# Altium footprint library PcbLib1.PcbLib: 4 footprints
Each footprint in its own frame and in the unit in brackets; x right, y up, seen from the top. Pads: shape width x height; smd on the part's side, far side on the other; paste and mask are expansions set on the pad; w line width, h text height; cw(c..) or ccw(c..) is an arc to the next point about the centre after c.
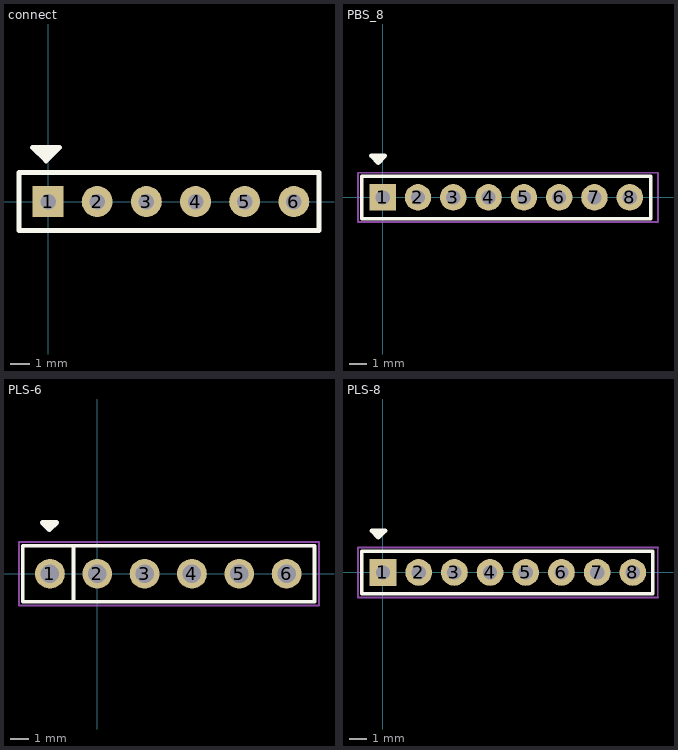
[diagram p0: the footprints below, top view; thin cyan lines are the x and y axes]

## connect [mm]
pads (6):
  rect 1.6x1.6 hole 0.8: 1(0,0)
  round 1.6 hole 0.8: 2(2.54,0) 3(5.08,0) 4(7.62,0) 5(10.16,0) 6(12.7,0)
Top Overlay:
  lines w0.254: -0.6,2.7 0.3,2.7 0.05,2.45 0.05,2.25 -0.1,2.4 ; -0.4,2.7 -0.1,2.4 ; -0.1,2.8 -0.1,2.4 ; -0.1,2.1 -0.8,2.8 0.6,2.8 ; -0.1,2.1 0.6,2.8 ; -0.1,2.1 0.6,2.8 ; -0.1,2.4 -0.1,2.4 ; -1.5,-1.5 14,-1.5 14,1.5 -1.5,1.5 -1.5,-1.5

## PBS_8 [mm] "2X11-2.0"
height 6
pads (8):
  rect 1.5x1.5 hole 0.8: 1(0,0)
  round 1.5 hole 0.8: 2(2,0) 3(4,0) 4(6,0) 5(8,0) 6(10,0) 7(12,0) 8(14,0)
Top Overlay:
  lines w0.2: -1.2,-1.2 -1.2,1.2 15.2,1.2 15.2,-1.2 -1.2,-1.2
  lines w0.254: -0.256,2.349 -0.256,1.965 ; -0.256,1.965 -0.64,2.349 0.129,2.349 -0.256,1.965
Mechanical 15:
  lines w0.1: -1.4,-1.4 -1.4,1.4 15.6,1.4 15.6,-1.4 -1.4,-1.4
3D body "User Library-PBS2-8.STEP": height 4.3, standoff -3.15, extent -1,-1 15,1

## PLS-6 [mm]
height 8.6
pads (6):
  round 1.6 hole 1 mask+0.1: 1(-2.54,0) 2(0,0) 3(2.54,0) 4(5.08,0) 5(7.62,0) 6(10.16,0)
Top Overlay:
  lines w0.2: -1.275,-1.5 -1.275,1.5 ; 11.658,-1.5 -4,-1.5 -4,1.5 11.658,1.5 ; 11.658,-1.495 11.658,1.505
  lines w0.254: -2.566,2.75 -2.566,2.366 ; -2.566,2.366 -2.181,2.75 -2.95,2.75 -2.566,2.366
Mechanical 15:
  lines w0.1: -4.2,-1.7 -4.2,1.7 11.9,1.7 11.9,-1.7 -4.2,-1.7
3D body "User Library-PLS-3.STEP": height 8.54, standoff -3, extent 3.81,-1.27 11.43,1.27
3D body "User Library-PLS-3.STEP": height 8.54, standoff -3, extent -3.81,-1.27 3.81,1.27

## PLS-8 [mm]
pads (8):
  rect 1.5x1.5 hole 0.8: 1(0,0)
  round 1.5 hole 0.8: 2(2,0) 3(4,0) 4(6,0) 5(8,0) 6(10,0) 7(12,0) 8(14,0)
Top Overlay:
  lines w0.2: -1.2,-1.2 -1.2,1.2 15.11,1.2 15.11,-1.2 -1.2,-1.2
  lines w0.254: -0.256,2.349 -0.256,1.965 ; -0.256,1.965 0.129,2.349 -0.64,2.349 -0.256,1.965
Mechanical 15:
  lines w0.1: 15.4,-1.4 15.4,1.4 ; 15.41,-1.4 -1.4,-1.4 -1.4,1.4 15.41,1.4
3D body "User Library-pls2-8_asm.STEP": height 5.98, standoff -2.82, extent -0.983,-1.005 15.017,0.995